# Altium integrated library Actel ProASIC PLUS.IntLib: 242 symbols (part 23 of 36)
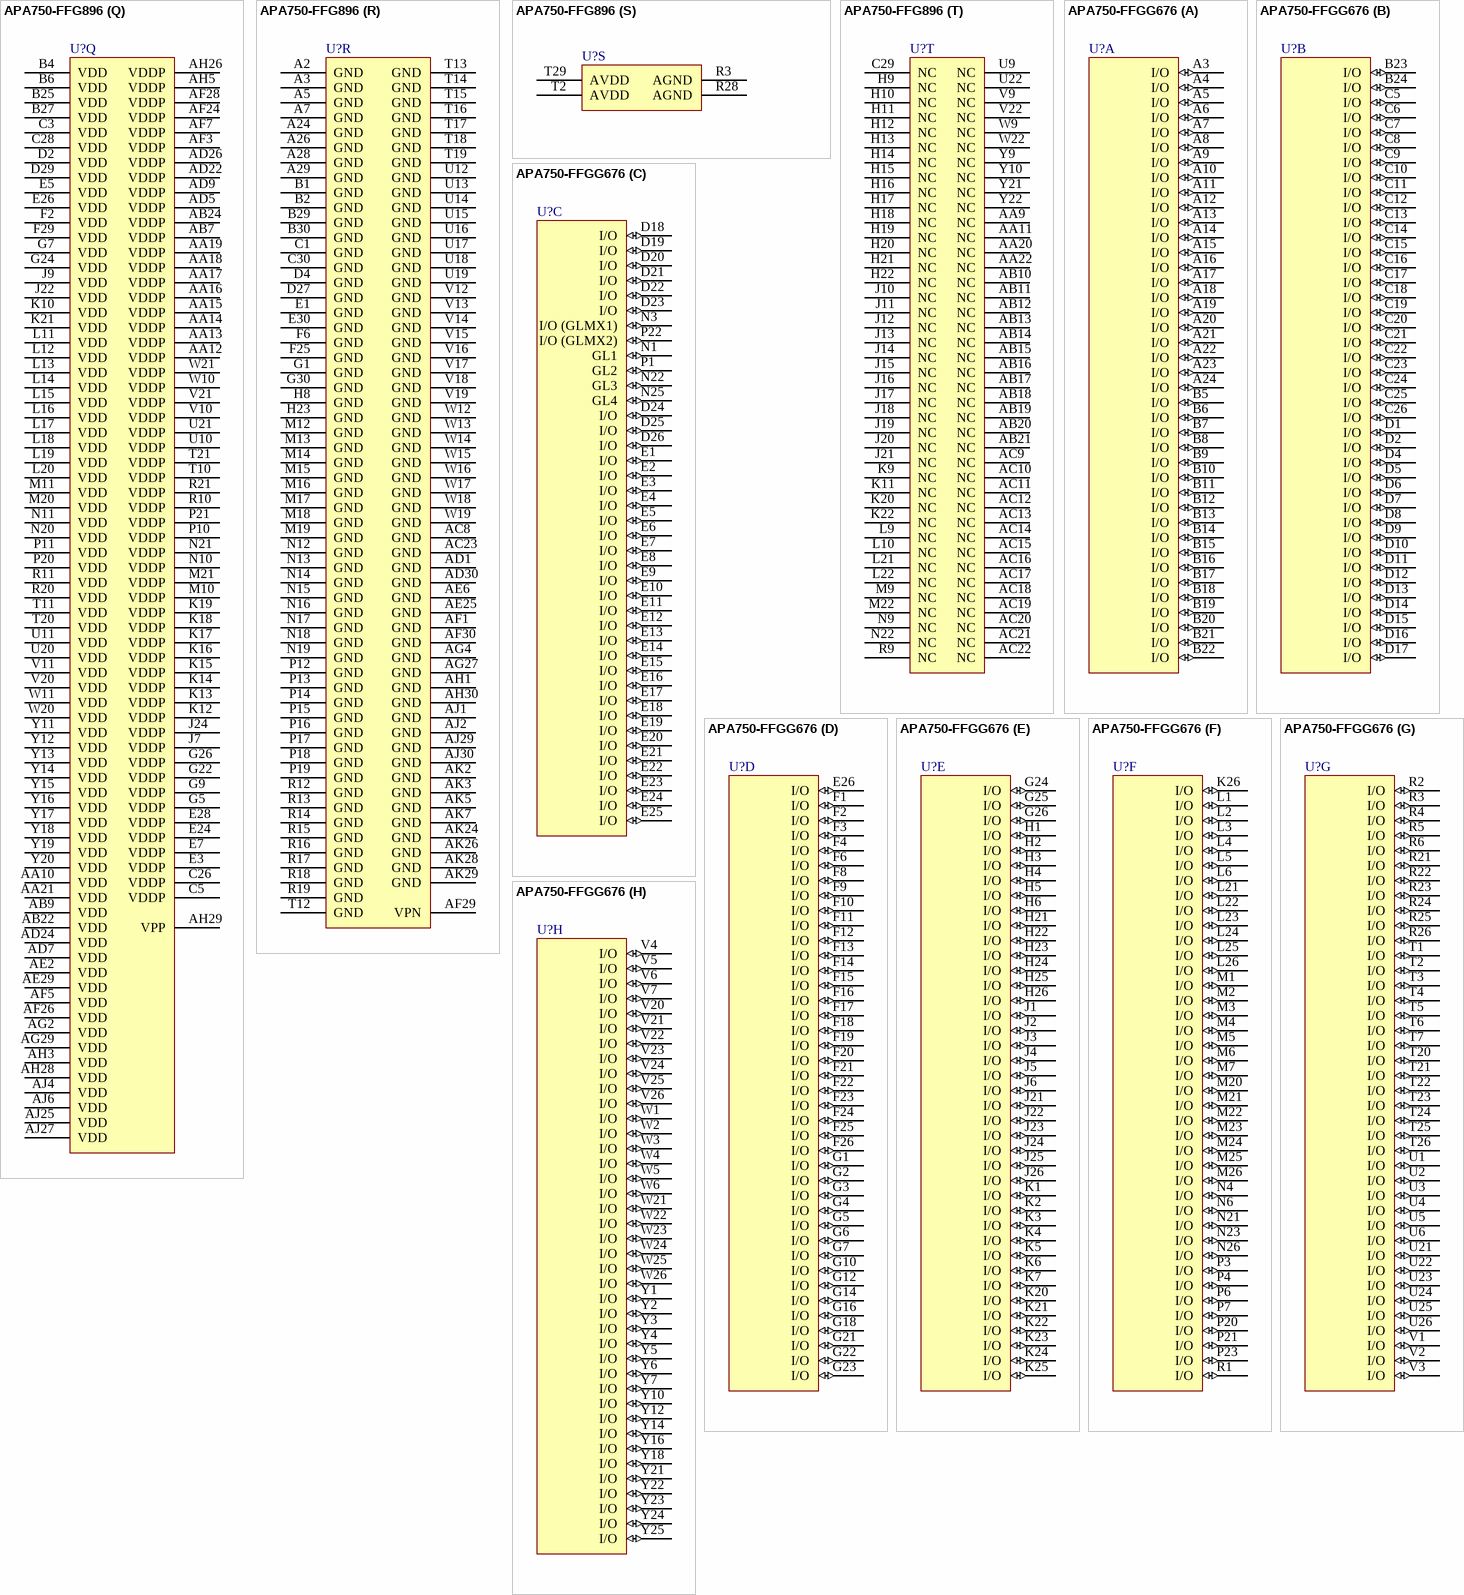
[diagram p219: symbols APA750-FFG896 to APA750-FFGG676]

## APA750-FFG896
designator U?
ProASICPlus APA750 Flash FPGA, 562 User IOs, 896-Pin FBGA, Speed Grade F, Commercial Grade; ComponentAvailability: Speed Grade F no longer suported, removed from v5.9, Jan-2010 datasheet.; Published: 21-May-2003; LatestRevisionDate: 11-Dec-2009; LatestRevisionNote: Updated to datasheet version 5.8 Jun-2009.; DatasheetVersion: v5.8, Jun-2009; PackageVersion: ver11.2, Nov-2009; PackageReference: FG896; Publisher: Altium Limited; PackageDescription: 896-Ball Fine Pitch Plastic Ball Grid Array (FG896); Code_JEDEC: MS-034-AAN-1; ComponentLink1Description: ProASIC PLUS Datasheet; ComponentLink1URL: http://www.actel.com/documents/ProASICPLUS_DS.pdf; ComponentLink2Description: Package Mechanical Drawings; ComponentLink2URL: http://www.actel.com/documents/PckgMechDrwngs.pdf; ComponentLink3Description: ProASIC PLUS Documents; ComponentLink3URL: http://www.actel.com/products/proasicplus/docs.aspx; ComponentLink4Description: Actel.com Home; ComponentLink4URL: http://www.actel.com/
footprint FG896 (BGA, 896-Leads, Body 31x31mm, Pitch 1mm)
part A pins: A4 I/O (io), A6 I/O (io), A8 I/O (io), A9 I/O (io), A10 I/O (io), A11 I/O (io), A12 I/O (io), A13 I/O (io), A14 I/O (io), A15 I/O (io), A16 I/O (io), A17 I/O (io), A18 I/O (io), A19 I/O (io), A20 I/O (io), A21 I/O (io), A22 I/O (io), A23 I/O (io), A25 I/O (io), A27 I/O (io), B3 I/O (io), B5 I/O (io), B7 I/O (io), B8 I/O (io), B9 I/O (io), B10 I/O (io), B11 I/O (io), B12 I/O (io), B13 I/O (io), B14 I/O (io), B15 I/O (io), B16 I/O (io), B17 I/O (io), B18 I/O (io), B19 I/O (io), B20 I/O (io), B21 I/O (io), B22 I/O (io), B23 I/O (io), B24 I/O (io)
part B pins: B26 I/O (io), B28 I/O (io), C2 I/O (io), C4 I/O (io), C6 I/O (io), C7 I/O (io), C8 I/O (io), C9 I/O (io), C10 I/O (io), C11 I/O (io), C12 I/O (io), C13 I/O (io), C14 I/O (io), C15 I/O (io), C16 I/O (io), C17 I/O (io), C18 I/O (io), C19 I/O (io), C20 I/O (io), C21 I/O (io), C22 I/O (io), C23 I/O (io), C24 I/O (io), C25 I/O (io), C27 I/O (io), D1 I/O (io), D3 I/O (io), D5 I/O (io), D6 I/O (io), D7 I/O (io), D8 I/O (io), D9 I/O (io), D10 I/O (io), D11 I/O (io), D12 I/O (io), D13 I/O (io), D14 I/O (io), D15 I/O (io), D16 I/O (io), D17 I/O (io)
part C pins: D18 I/O (io), D19 I/O (io), D20 I/O (io), D21 I/O (io), D22 I/O (io), D23 I/O (io), D24 I/O (io), D25 I/O (io), D26 I/O (io), D28 I/O (io), D30 I/O (io), E2 I/O (io), E4 I/O (io), E6 I/O (io), E8 I/O (io), E9 I/O (io), E10 I/O (io), E11 I/O (io), E12 I/O (io), E13 I/O (io), E14 I/O (io), E15 I/O (io), E16 I/O (io), E17 I/O (io), E18 I/O (io), E19 I/O (io), E20 I/O (io), E21 I/O (io), E22 I/O (io), E23 I/O (io), E25 I/O (io), E27 I/O (io), E29 I/O (io), F1 I/O (io), F3 I/O (io), F4 I/O (io), F5 I/O (io), F7 I/O (io), F8 I/O (io), F9 I/O (io)
part D pins: F10 I/O (io), F11 I/O (io), F12 I/O (io), F13 I/O (io), F14 I/O (io), F15 I/O (io), F16 I/O (io), F17 I/O (io), F18 I/O (io), F19 I/O (io), F20 I/O (io), F21 I/O (io), F22 I/O (io), F23 I/O (io), F24 I/O (io), F26 I/O (io), F27 I/O (io), F28 I/O (io), F30 I/O (io), G2 I/O (io), G3 I/O (io), G4 I/O (io), G6 I/O (io), G8 I/O (io), G10 I/O (io), G11 I/O (io), G12 I/O (io), G13 I/O (io), G14 I/O (io), G15 I/O (io), G16 I/O (io), G17 I/O (io), G18 I/O (io), G19 I/O (io), R2 I/O (GLMX1) (io), R5 GL1 (io), R29 I/O (GLMX2) (io), T3 GL2 (io), T27 GL4 (io), T28 GL3 (io)
part E pins: G20 I/O (io), G21 I/O (io), G23 I/O (io), G25 I/O (io), G27 I/O (io), G28 I/O (io), G29 I/O (io), H1 I/O (io), H2 I/O (io), H3 I/O (io), H4 I/O (io), H5 I/O (io), H6 I/O (io), H7 I/O (io), H24 I/O (io), H25 I/O (io), H26 I/O (io), H27 I/O (io), H28 I/O (io), H29 I/O (io), H30 I/O (io), J1 I/O (io), J2 I/O (io), J3 I/O (io), J4 I/O (io), J5 I/O (io), J6 I/O (io), J8 I/O (io), J23 I/O (io), J25 I/O (io), J26 I/O (io), J27 I/O (io), J28 I/O (io), J29 I/O (io), J30 I/O (io), K1 I/O (io), K2 I/O (io), K3 I/O (io), K4 I/O (io), K5 I/O (io)
part F pins: K6 I/O (io), K7 I/O (io), K8 I/O (io), K23 I/O (io), K24 I/O (io), K25 I/O (io), K26 I/O (io), K27 I/O (io), K28 I/O (io), K29 I/O (io), K30 I/O (io), L1 I/O (io), L2 I/O (io), L3 I/O (io), L4 I/O (io), L5 I/O (io), L6 I/O (io), L7 I/O (io), L8 I/O (io), L23 I/O (io), L24 I/O (io), L25 I/O (io), L26 I/O (io), L27 I/O (io), L28 I/O (io), L29 I/O (io), L30 I/O (io), M1 I/O (io), M2 I/O (io), M3 I/O (io), M4 I/O (io), M5 I/O (io), M6 I/O (io), M7 I/O (io), M8 I/O (io), M23 I/O (io), M24 I/O (io), M25 I/O (io), M26 I/O (io), M27 I/O (io)
part G pins: M28 I/O (io), M29 I/O (io), M30 I/O (io), N1 I/O (io), N2 I/O (io), N3 I/O (io), N4 I/O (io), N5 I/O (io), N6 I/O (io), N7 I/O (io), N8 I/O (io), N23 I/O (io), N24 I/O (io), N25 I/O (io), N26 I/O (io), N27 I/O (io), N28 I/O (io), N29 I/O (io), N30 I/O (io), P1 I/O (io), P2 I/O (io), P3 I/O (io), P4 I/O (io), P5 I/O (io), P6 I/O (io), P7 I/O (io), P8 I/O (io), P9 I/O (io), P22 I/O (io), P23 I/O (io), P24 I/O (io), P25 I/O (io), P26 I/O (io), P27 I/O (io), P28 I/O (io), P29 I/O (io), P30 I/O (io), R1 I/O (io), R6 I/O (io), R7 I/O (io)
part H pins: R8 I/O (io), R22 I/O (io), R23 I/O (io), R24 I/O (io), R25 I/O (io), R26 I/O (io), R30 I/O (io), T1 I/O (io), T5 I/O (io), T6 I/O (io), T7 I/O (io), T8 I/O (io), T9 I/O (io), T22 I/O (io), T23 I/O (io), T24 I/O (io), T25 I/O (io), T30 I/O (io), U1 I/O (io), U2 I/O (io), U3 I/O (io), U4 I/O (io), U5 I/O (io), U6 I/O (io), U7 I/O (io), U8 I/O (io), U23 I/O (io), U24 I/O (io), U25 I/O (io), U26 I/O (io), U27 I/O (io), U28 I/O (io), U29 I/O (io), U30 I/O (io), V1 I/O (io), V2 I/O (io), V3 I/O (io), V4 I/O (io), V5 I/O (io), V6 I/O (io)
part I pins: V7 I/O (io), V8 I/O (io), V23 I/O (io), V24 I/O (io), V25 I/O (io), V26 I/O (io), V27 I/O (io), V28 I/O (io), V29 I/O (io), V30 I/O (io), W1 I/O (io), W2 I/O (io), W3 I/O (io), W4 I/O (io), W5 I/O (io), W6 I/O (io), W7 I/O (io), W8 I/O (io), W23 I/O (io), W24 I/O (io), W25 I/O (io), W26 I/O (io), W27 I/O (io), W28 I/O (io), W29 I/O (io), W30 I/O (io), Y1 I/O (io), Y2 I/O (io), Y3 I/O (io), Y4 I/O (io), Y5 I/O (io), Y6 I/O (io), Y7 I/O (io), Y8 I/O (io), Y23 I/O (io), Y24 I/O (io), Y25 I/O (io), Y26 I/O (io), Y27 I/O (io), Y28 I/O (io)
part J pins: AA1 I/O (io), AA2 I/O (io), AA3 I/O (io), AA4 I/O (io), AA5 I/O (io), AA6 I/O (io), AA7 I/O (io), AA8 I/O (io), AA23 I/O (io), AA24 I/O (io), AA25 I/O (io), AA26 I/O (io), AA27 I/O (io), AA28 I/O (io), AA29 I/O (io), AA30 I/O (io), AB1 I/O (io), AB2 I/O (io), AB3 I/O (io), AB4 I/O (io), AB5 I/O (io), AB6 I/O (io), AB8 I/O (io), AB23 I/O (io), AB25 I/O (io), AB26 I/O (io), AB27 I/O (io), AB28 I/O (io), AB29 I/O (io), AB30 I/O (io), AC1 I/O (io), AC2 I/O (io), AC3 I/O (io), AC4 I/O (io), AC5 I/O (io), AC6 I/O (io), AC7 I/O (io), AC24 I/O (io), Y29 I/O (io), Y30 I/O (io)
part K pins: AC25 I/O (io), AC26 I/O (io), AC27 I/O (io), AC28 I/O (io), AC29 I/O (io), AC30 I/O (io), AD2 I/O (io), AD3 I/O (io), AD4 I/O (io), AD6 I/O (io), AD8 I/O (io), AD10 I/O (io), AD11 I/O (io), AD12 I/O (io), AD13 I/O (io), AD14 I/O (io), AD15 I/O (io), AD16 I/O (io), AD17 I/O (io), AD18 I/O (io), AD19 I/O (io), AD20 I/O (io), AD21 I/O (io), AD27 I/O (io), AD28 I/O (io), AD29 I/O (io), AE1 I/O (io), AE3 I/O (io), AE4 I/O (io), AE5 I/O (io), AE7 I/O (io), AE8 I/O (io), AE9 I/O (io), AE10 I/O (io), AE11 I/O (io), AE12 I/O (io), AE13 I/O (io), AE14 I/O (io), AE15 I/O (io), AE16 I/O (io)
part L pins: AE17 I/O (io), AE18 I/O (io), AE19 I/O (io), AE20 I/O (io), AE21 I/O (io), AE22 I/O (io), AE23 I/O (io), AE24 I/O (io), AE26 I/O (io), AE27 I/O (io), AE28 I/O (io), AE30 I/O (io), AF2 I/O (io), AF4 I/O (io), AF6 I/O (io), AF8 I/O (io), AF9 I/O (io), AF10 I/O (io), AF11 I/O (io), AF12 I/O (io), AF13 I/O (io), AF14 I/O (io), AF15 I/O (io), AF16 I/O (io), AF17 I/O (io), AF18 I/O (io), AF19 I/O (io), AF20 I/O (io), AF21 I/O (io), AF22 I/O (io), AF23 I/O (io), AF25 I/O (io), AG1 I/O (io), AG3 I/O (io), AG5 I/O (io), AG6 I/O (io), AG7 I/O (io), AG8 I/O (io), AG9 I/O (io), AG10 I/O (io)
part M pins: AG11 I/O (io), AG12 I/O (io), AG13 I/O (io), AG14 I/O (io), AG15 I/O (io), AG16 I/O (io), AG17 I/O (io), AG18 I/O (io), AG19 I/O (io), AG20 I/O (io), AG21 I/O (io), AG22 I/O (io), AG23 I/O (io), AG24 I/O (io), AG25 I/O (io), AG26 I/O (io), AG30 I/O (io), AH2 I/O (io), AH4 I/O (io), AH6 I/O (io), AH7 I/O (io), AH8 I/O (io), AH9 I/O (io), AH10 I/O (io), AH11 I/O (io), AH12 I/O (io), AH13 I/O (io), AH14 I/O (io), AH15 I/O (io), AH16 I/O (io), AH17 I/O (io), AH18 I/O (io), AH19 I/O (io), AH20 I/O (io), AH21 I/O (io), AH22 I/O (io), AH23 I/O (io), AH24 I/O (io), AH25 I/O (io), AJ3 I/O (io)
part N pins: AJ5 I/O (io), AJ7 I/O (io), AJ8 I/O (io), AJ9 I/O (io), AJ10 I/O (io), AJ11 I/O (io), AJ12 I/O (io), AJ13 I/O (io), AJ14 I/O (io), AJ15 I/O (io), AJ16 I/O (io), AJ17 I/O (io), AJ18 I/O (io), AJ19 I/O (io), AJ20 I/O (io), AJ21 I/O (io), AJ22 I/O (io), AJ23 I/O (io), AJ24 I/O (io), AJ26 I/O (io), AK4 I/O (io), AK6 I/O (io), AK8 I/O (io), AK9 I/O (io), AK10 I/O (io), AK11 I/O (io), AK12 I/O (io), AK13 I/O (io), AK14 I/O (io), AK15 I/O (io), AK16 I/O (io), AK17 I/O (io), AK18 I/O (io), AK19 I/O (io), AK20 I/O (io), AK21 I/O (io), AK22 I/O (io), AK23 I/O (io), AK25 I/O (io), AK27 I/O (io)
part O pins: R4 NPECL1 (in), R27 NPECL2 (in), T4 PPECL1 (I/P) (in), T26 PPECL2 (I/P) (in)
part P pins: AD23 TCK (in), AD25 ~{TRST} (in), AF27 TDO (out), AG28 RCK (in), AH27 TDI (in), AJ28 TMS (in)
part Q pins: AA10 VDD (power), AA12 VDDP (power), AA13 VDDP (power), AA14 VDDP (power), AA15 VDDP (power), AA16 VDDP (power), AA17 VDDP (power), AA18 VDDP (power), AA19 VDDP (power), AA21 VDD (power), AB7 VDDP (power), AB9 VDD (power), AB22 VDD (power), AB24 VDDP (power), AD5 VDDP (power), AD7 VDD (power), AD9 VDDP (power), AD22 VDDP (power), AD24 VDD (power), AD26 VDDP (power), AE2 VDD (power), AE29 VDD (power), AF3 VDDP (power), AF5 VDD (power), AF7 VDDP (power), AF24 VDDP (power), AF26 VDD (power), AF28 VDDP (power), AG2 VDD (power), AG29 VDD (power), AH3 VDD (power), AH5 VDDP (power), AH26 VDDP (power), AH28 VDD (power), AH29 VPP (power), AJ4 VDD (power), AJ6 VDD (power), AJ25 VDD (power), AJ27 VDD (power), B4 VDD (power), B6 VDD (power), B25 VDD (power), B27 VDD (power), C3 VDD (power), C5 VDDP (power), C26 VDDP (power), C28 VDD (power), D2 VDD (power), D29 VDD (power), E3 VDDP (power), E5 VDD (power), E7 VDDP (power), E24 VDDP (power), E26 VDD (power), E28 VDDP (power), F2 VDD (power), F29 VDD (power), G5 VDDP (power), G7 VDD (power), G9 VDDP (power), G22 VDDP (power), G24 VDD (power), G26 VDDP (power), J7 VDDP (power), J9 VDD (power), J22 VDD (power), J24 VDDP (power), K10 VDD (power), K12 VDDP (power), K13 VDDP (power), K14 VDDP (power), K15 VDDP (power), K16 VDDP (power), K17 VDDP (power), K18 VDDP (power), K19 VDDP (power), K21 VDD (power), L11 VDD (power), L12 VDD (power), L13 VDD (power), L14 VDD (power), L15 VDD (power), L16 VDD (power), L17 VDD (power), L18 VDD (power), L19 VDD (power), L20 VDD (power), M10 VDDP (power), M11 VDD (power), M20 VDD (power), M21 VDDP (power), N10 VDDP (power), N11 VDD (power), N20 VDD (power), N21 VDDP (power), P10 VDDP (power), P11 VDD (power), P20 VDD (power), P21 VDDP (power), R10 VDDP (power), R11 VDD (power), R20 VDD (power), R21 VDDP (power), T10 VDDP (power), T11 VDD (power), T20 VDD (power), T21 VDDP (power), U10 VDDP (power), U11 VDD (power), U20 VDD (power), U21 VDDP (power), V10 VDDP (power), V11 VDD (power), V20 VDD (power), V21 VDDP (power), W10 VDDP (power), W11 VDD (power), W20 VDD (power), W21 VDDP (power), Y11 VDD (power), Y12 VDD (power), Y13 VDD (power), Y14 VDD (power), Y15 VDD (power), Y16 VDD (power), Y17 VDD (power), Y18 VDD (power), Y19 VDD (power), Y20 VDD (power)
part R pins: A2 GND (power), A3 GND (power), A5 GND (power), A7 GND (power), A24 GND (power), A26 GND (power), A28 GND (power), A29 GND (power), AC8 GND (power), AC23 GND (power), AD1 GND (power), AD30 GND (power), AE6 GND (power), AE25 GND (power), AF1 GND (power), AF29 VPN (power), AF30 GND (power), AG4 GND (power), AG27 GND (power), AH1 GND (power), AH30 GND (power), AJ1 GND (power), AJ2 GND (power), AJ29 GND (power), AJ30 GND (power), AK2 GND (power), AK3 GND (power), AK5 GND (power), AK7 GND (power), AK24 GND (power), AK26 GND (power), AK28 GND (power), AK29 GND (power), B1 GND (power), B2 GND (power), B29 GND (power), B30 GND (power), C1 GND (power), C30 GND (power), D4 GND (power), D27 GND (power), E1 GND (power), E30 GND (power), F6 GND (power), F25 GND (power), G1 GND (power), G30 GND (power), H8 GND (power), H23 GND (power), M12 GND (power), M13 GND (power), M14 GND (power), M15 GND (power), M16 GND (power), M17 GND (power), M18 GND (power), M19 GND (power), N12 GND (power), N13 GND (power), N14 GND (power), N15 GND (power), N16 GND (power), N17 GND (power), N18 GND (power), N19 GND (power), P12 GND (power), P13 GND (power), P14 GND (power), P15 GND (power), P16 GND (power), P17 GND (power), P18 GND (power), P19 GND (power), R12 GND (power), R13 GND (power), R14 GND (power), R15 GND (power), R16 GND (power), R17 GND (power), R18 GND (power), R19 GND (power), T12 GND (power), T13 GND (power), T14 GND (power), T15 GND (power), T16 GND (power), T17 GND (power), T18 GND (power), T19 GND (power), U12 GND (power), U13 GND (power), U14 GND (power), U15 GND (power), U16 GND (power), U17 GND (power), U18 GND (power), U19 GND (power), V12 GND (power), V13 GND (power), V14 GND (power), V15 GND (power), V16 GND (power), V17 GND (power), V18 GND (power), V19 GND (power), W12 GND (power), W13 GND (power), W14 GND (power), W15 GND (power), W16 GND (power), W17 GND (power), W18 GND (power), W19 GND (power)
part S pins: R3 AGND (power), R28 AGND (power), T2 AVDD (power), T29 AVDD (power)
part T pins: AA9 NC, AA11 NC, AA20 NC, AA22 NC, AB10 NC, AB11 NC, AB12 NC, AB13 NC, AB14 NC, AB15 NC, AB16 NC, AB17 NC, AB18 NC, AB19 NC, AB20 NC, AB21 NC, AC9 NC, AC10 NC, AC11 NC, AC12 NC, AC13 NC, AC14 NC, AC15 NC, AC16 NC, AC17 NC, AC18 NC, AC19 NC, AC20 NC, AC21 NC, AC22 NC, C29 NC, H9 NC, H10 NC, H11 NC, H12 NC, H13 NC, H14 NC, H15 NC, H16 NC, H17 NC, H18 NC, H19 NC, H20 NC, H21 NC, H22 NC, J10 NC, J11 NC, J12 NC, J13 NC, J14 NC, J15 NC, J16 NC, J17 NC, J18 NC, J19 NC, J20 NC, J21 NC, K9 NC, K11 NC, K20 NC, K22 NC, L9 NC, L10 NC, L21 NC, L22 NC, M9 NC, M22 NC, N9 NC, N22 NC, R9 NC, U9 NC, U22 NC, V9 NC, V22 NC, W9 NC, W22 NC, Y9 NC, Y10 NC, Y21 NC, Y22 NC

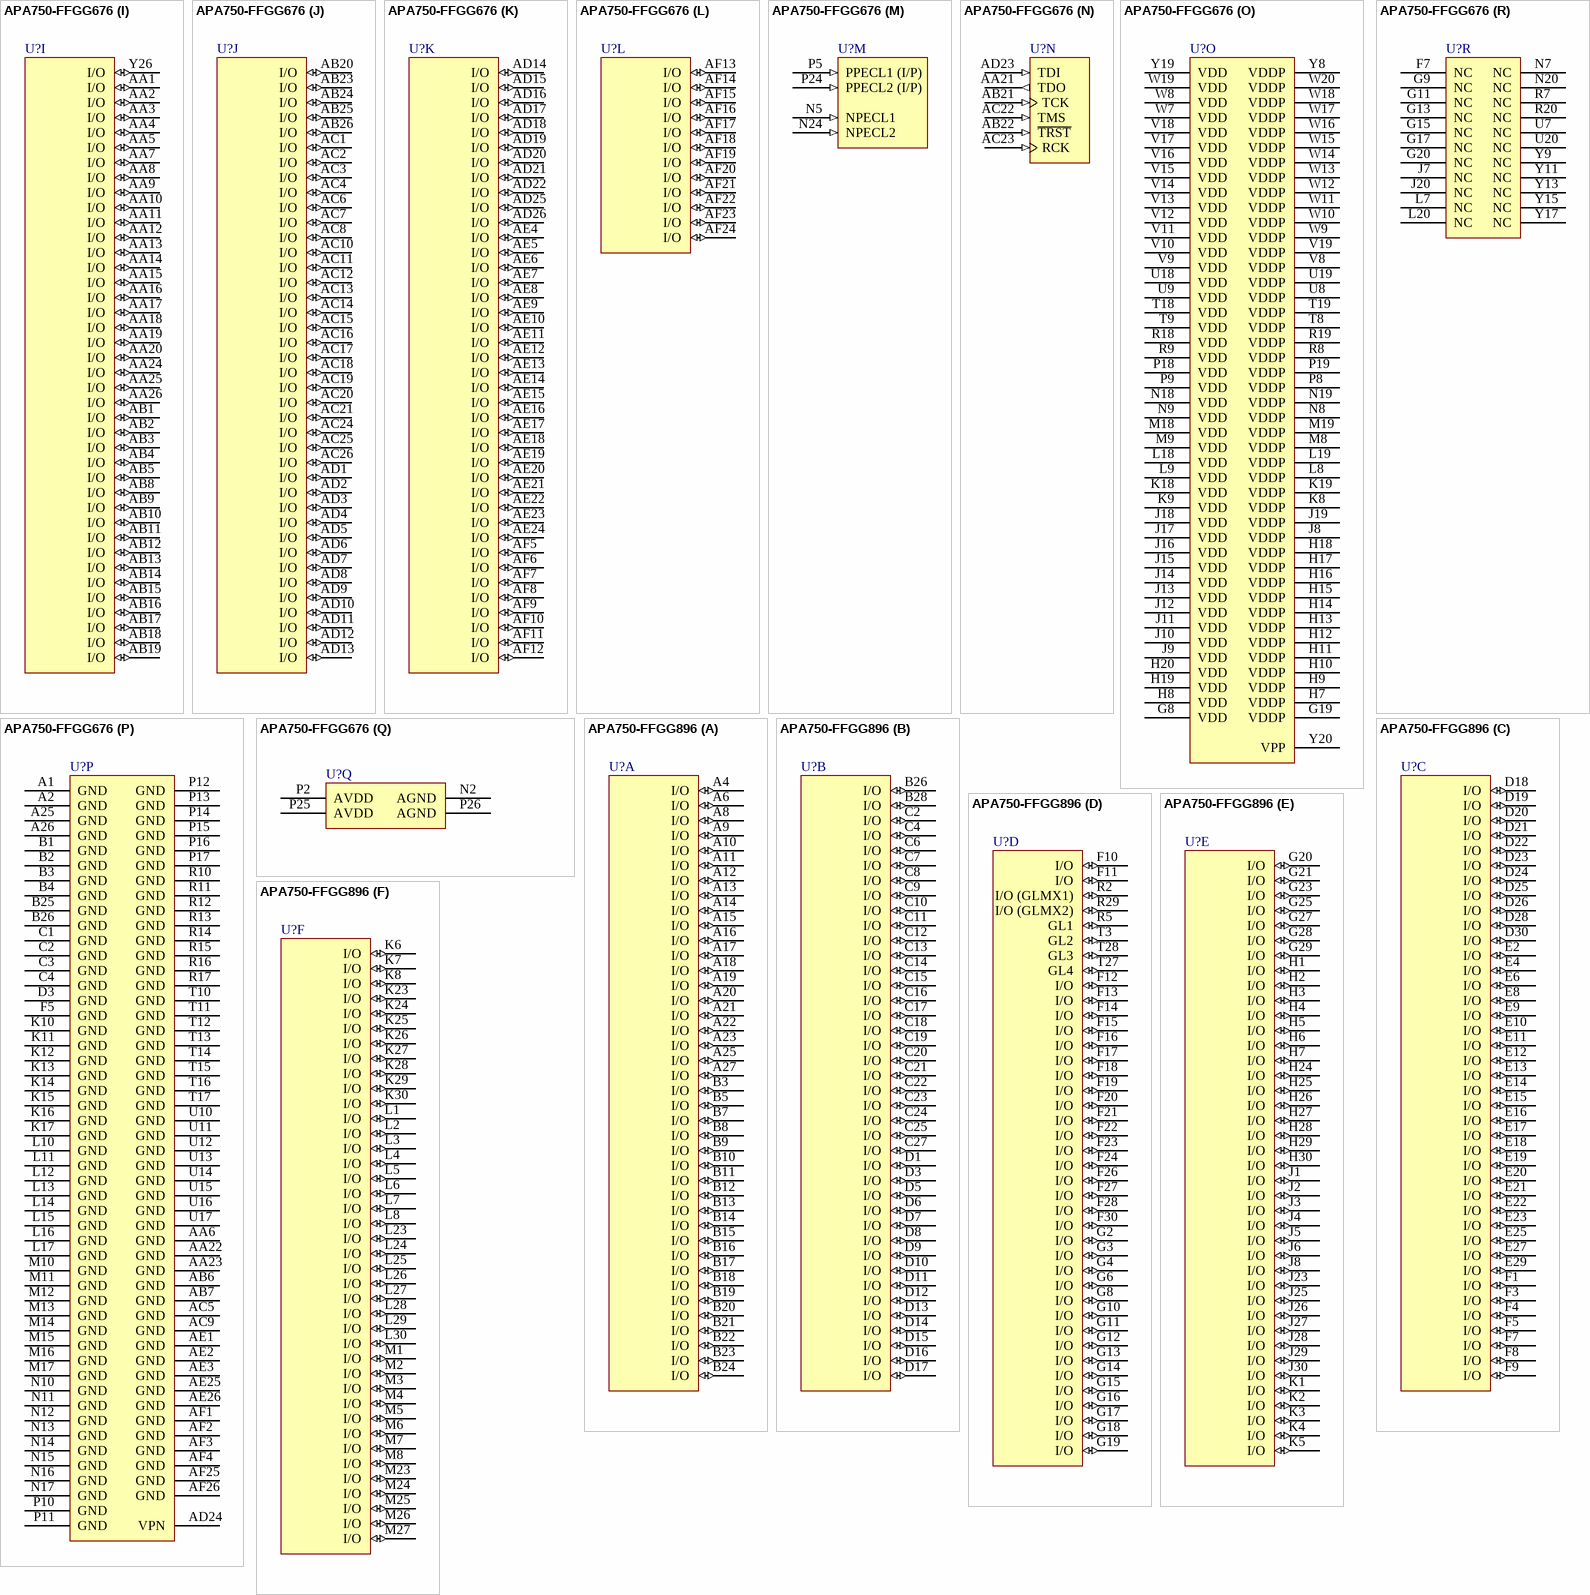
[diagram p131: symbols APA750-FFGG676 to APA750-FFGG896]

## APA750-FFGG676
designator U?
ProASICPlus APA750 Flash FPGA, 454 User IOs, 676-Pin FBGA, Speed Grade F, Commercial Grade, Pb-Free; ComponentAvailability: Speed Grade F no longer suported, removed from v5.9, Jan-2010 datasheet.; Published: 16-Dec-2005; LatestRevisionDate: 11-Dec-2009; LatestRevisionNote: Updated to datasheet version 5.8 Jun-2009.; DatasheetVersion: v5.8, Jun-2009; PackageVersion: ver11.2, Nov-2009; PackageReference: FG676; Publisher: Altium Limited; PackageDescription: 676-Ball Fine Pitch Plastic Ball Grid Array (FG676); Code_JEDEC: MS-034-AAL-1; Code_IPC: BGA100P26X26-676; ComponentLink1Description: ProASIC PLUS Datasheet; ComponentLink1URL: http://www.actel.com/documents/ProASICPLUS_DS.pdf; ComponentLink2Description: Package Mechanical Drawings; ComponentLink2URL: http://www.actel.com/documents/PckgMechDrwngs.pdf; ComponentLink3Description: ProASIC PLUS Documents; ComponentLink3URL: http://www.actel.com/products/proasicplus/docs.aspx; ComponentLink4Description: Actel.com Home; ComponentLink4URL: http://www.actel.com/
footprint FG676 (BGA, 676-Leads, Body 27x27mm, Pitch 1mm)
part A pins: A3 I/O (io), A4 I/O (io), A5 I/O (io), A6 I/O (io), A7 I/O (io), A8 I/O (io), A9 I/O (io), A10 I/O (io), A11 I/O (io), A12 I/O (io), A13 I/O (io), A14 I/O (io), A15 I/O (io), A16 I/O (io), A17 I/O (io), A18 I/O (io), A19 I/O (io), A20 I/O (io), A21 I/O (io), A22 I/O (io), A23 I/O (io), A24 I/O (io), B5 I/O (io), B6 I/O (io), B7 I/O (io), B8 I/O (io), B9 I/O (io), B10 I/O (io), B11 I/O (io), B12 I/O (io), B13 I/O (io), B14 I/O (io), B15 I/O (io), B16 I/O (io), B17 I/O (io), B18 I/O (io), B19 I/O (io), B20 I/O (io), B21 I/O (io), B22 I/O (io)
part B pins: B23 I/O (io), B24 I/O (io), C5 I/O (io), C6 I/O (io), C7 I/O (io), C8 I/O (io), C9 I/O (io), C10 I/O (io), C11 I/O (io), C12 I/O (io), C13 I/O (io), C14 I/O (io), C15 I/O (io), C16 I/O (io), C17 I/O (io), C18 I/O (io), C19 I/O (io), C20 I/O (io), C21 I/O (io), C22 I/O (io), C23 I/O (io), C24 I/O (io), C25 I/O (io), C26 I/O (io), D1 I/O (io), D2 I/O (io), D4 I/O (io), D5 I/O (io), D6 I/O (io), D7 I/O (io), D8 I/O (io), D9 I/O (io), D10 I/O (io), D11 I/O (io), D12 I/O (io), D13 I/O (io), D14 I/O (io), D15 I/O (io), D16 I/O (io), D17 I/O (io)
part C pins: D18 I/O (io), D19 I/O (io), D20 I/O (io), D21 I/O (io), D22 I/O (io), D23 I/O (io), D24 I/O (io), D25 I/O (io), D26 I/O (io), E1 I/O (io), E2 I/O (io), E3 I/O (io), E4 I/O (io), E5 I/O (io), E6 I/O (io), E7 I/O (io), E8 I/O (io), E9 I/O (io), E10 I/O (io), E11 I/O (io), E12 I/O (io), E13 I/O (io), E14 I/O (io), E15 I/O (io), E16 I/O (io), E17 I/O (io), E18 I/O (io), E19 I/O (io), E20 I/O (io), E21 I/O (io), E22 I/O (io), E23 I/O (io), E24 I/O (io), E25 I/O (io), N1 GL1 (io), N3 I/O (GLMX1) (io), N22 GL3 (io), N25 GL4 (io), P1 GL2 (io), P22 I/O (GLMX2) (io)
part D pins: E26 I/O (io), F1 I/O (io), F2 I/O (io), F3 I/O (io), F4 I/O (io), F6 I/O (io), F8 I/O (io), F9 I/O (io), F10 I/O (io), F11 I/O (io), F12 I/O (io), F13 I/O (io), F14 I/O (io), F15 I/O (io), F16 I/O (io), F17 I/O (io), F18 I/O (io), F19 I/O (io), F20 I/O (io), F21 I/O (io), F22 I/O (io), F23 I/O (io), F24 I/O (io), F25 I/O (io), F26 I/O (io), G1 I/O (io), G2 I/O (io), G3 I/O (io), G4 I/O (io), G5 I/O (io), G6 I/O (io), G7 I/O (io), G10 I/O (io), G12 I/O (io), G14 I/O (io), G16 I/O (io), G18 I/O (io), G21 I/O (io), G22 I/O (io), G23 I/O (io)
part E pins: G24 I/O (io), G25 I/O (io), G26 I/O (io), H1 I/O (io), H2 I/O (io), H3 I/O (io), H4 I/O (io), H5 I/O (io), H6 I/O (io), H21 I/O (io), H22 I/O (io), H23 I/O (io), H24 I/O (io), H25 I/O (io), H26 I/O (io), J1 I/O (io), J2 I/O (io), J3 I/O (io), J4 I/O (io), J5 I/O (io), J6 I/O (io), J21 I/O (io), J22 I/O (io), J23 I/O (io), J24 I/O (io), J25 I/O (io), J26 I/O (io), K1 I/O (io), K2 I/O (io), K3 I/O (io), K4 I/O (io), K5 I/O (io), K6 I/O (io), K7 I/O (io), K20 I/O (io), K21 I/O (io), K22 I/O (io), K23 I/O (io), K24 I/O (io), K25 I/O (io)
part F pins: K26 I/O (io), L1 I/O (io), L2 I/O (io), L3 I/O (io), L4 I/O (io), L5 I/O (io), L6 I/O (io), L21 I/O (io), L22 I/O (io), L23 I/O (io), L24 I/O (io), L25 I/O (io), L26 I/O (io), M1 I/O (io), M2 I/O (io), M3 I/O (io), M4 I/O (io), M5 I/O (io), M6 I/O (io), M7 I/O (io), M20 I/O (io), M21 I/O (io), M22 I/O (io), M23 I/O (io), M24 I/O (io), M25 I/O (io), M26 I/O (io), N4 I/O (io), N6 I/O (io), N21 I/O (io), N23 I/O (io), N26 I/O (io), P3 I/O (io), P4 I/O (io), P6 I/O (io), P7 I/O (io), P20 I/O (io), P21 I/O (io), P23 I/O (io), R1 I/O (io)
part G pins: R2 I/O (io), R3 I/O (io), R4 I/O (io), R5 I/O (io), R6 I/O (io), R21 I/O (io), R22 I/O (io), R23 I/O (io), R24 I/O (io), R25 I/O (io), R26 I/O (io), T1 I/O (io), T2 I/O (io), T3 I/O (io), T4 I/O (io), T5 I/O (io), T6 I/O (io), T7 I/O (io), T20 I/O (io), T21 I/O (io), T22 I/O (io), T23 I/O (io), T24 I/O (io), T25 I/O (io), T26 I/O (io), U1 I/O (io), U2 I/O (io), U3 I/O (io), U4 I/O (io), U5 I/O (io), U6 I/O (io), U21 I/O (io), U22 I/O (io), U23 I/O (io), U24 I/O (io), U25 I/O (io), U26 I/O (io), V1 I/O (io), V2 I/O (io), V3 I/O (io)
part H pins: V4 I/O (io), V5 I/O (io), V6 I/O (io), V7 I/O (io), V20 I/O (io), V21 I/O (io), V22 I/O (io), V23 I/O (io), V24 I/O (io), V25 I/O (io), V26 I/O (io), W1 I/O (io), W2 I/O (io), W3 I/O (io), W4 I/O (io), W5 I/O (io), W6 I/O (io), W21 I/O (io), W22 I/O (io), W23 I/O (io), W24 I/O (io), W25 I/O (io), W26 I/O (io), Y1 I/O (io), Y2 I/O (io), Y3 I/O (io), Y4 I/O (io), Y5 I/O (io), Y6 I/O (io), Y7 I/O (io), Y10 I/O (io), Y12 I/O (io), Y14 I/O (io), Y16 I/O (io), Y18 I/O (io), Y21 I/O (io), Y22 I/O (io), Y23 I/O (io), Y24 I/O (io), Y25 I/O (io)
part I pins: AA1 I/O (io), AA2 I/O (io), AA3 I/O (io), AA4 I/O (io), AA5 I/O (io), AA7 I/O (io), AA8 I/O (io), AA9 I/O (io), AA10 I/O (io), AA11 I/O (io), AA12 I/O (io), AA13 I/O (io), AA14 I/O (io), AA15 I/O (io), AA16 I/O (io), AA17 I/O (io), AA18 I/O (io), AA19 I/O (io), AA20 I/O (io), AA24 I/O (io), AA25 I/O (io), AA26 I/O (io), AB1 I/O (io), AB2 I/O (io), AB3 I/O (io), AB4 I/O (io), AB5 I/O (io), AB8 I/O (io), AB9 I/O (io), AB10 I/O (io), AB11 I/O (io), AB12 I/O (io), AB13 I/O (io), AB14 I/O (io), AB15 I/O (io), AB16 I/O (io), AB17 I/O (io), AB18 I/O (io), AB19 I/O (io), Y26 I/O (io)
part J pins: AB20 I/O (io), AB23 I/O (io), AB24 I/O (io), AB25 I/O (io), AB26 I/O (io), AC1 I/O (io), AC2 I/O (io), AC3 I/O (io), AC4 I/O (io), AC6 I/O (io), AC7 I/O (io), AC8 I/O (io), AC10 I/O (io), AC11 I/O (io), AC12 I/O (io), AC13 I/O (io), AC14 I/O (io), AC15 I/O (io), AC16 I/O (io), AC17 I/O (io), AC18 I/O (io), AC19 I/O (io), AC20 I/O (io), AC21 I/O (io), AC24 I/O (io), AC25 I/O (io), AC26 I/O (io), AD1 I/O (io), AD2 I/O (io), AD3 I/O (io), AD4 I/O (io), AD5 I/O (io), AD6 I/O (io), AD7 I/O (io), AD8 I/O (io), AD9 I/O (io), AD10 I/O (io), AD11 I/O (io), AD12 I/O (io), AD13 I/O (io)
part K pins: AD14 I/O (io), AD15 I/O (io), AD16 I/O (io), AD17 I/O (io), AD18 I/O (io), AD19 I/O (io), AD20 I/O (io), AD21 I/O (io), AD22 I/O (io), AD25 I/O (io), AD26 I/O (io), AE4 I/O (io), AE5 I/O (io), AE6 I/O (io), AE7 I/O (io), AE8 I/O (io), AE9 I/O (io), AE10 I/O (io), AE11 I/O (io), AE12 I/O (io), AE13 I/O (io), AE14 I/O (io), AE15 I/O (io), AE16 I/O (io), AE17 I/O (io), AE18 I/O (io), AE19 I/O (io), AE20 I/O (io), AE21 I/O (io), AE22 I/O (io), AE23 I/O (io), AE24 I/O (io), AF5 I/O (io), AF6 I/O (io), AF7 I/O (io), AF8 I/O (io), AF9 I/O (io), AF10 I/O (io), AF11 I/O (io), AF12 I/O (io)
part L pins: AF13 I/O (io), AF14 I/O (io), AF15 I/O (io), AF16 I/O (io), AF17 I/O (io), AF18 I/O (io), AF19 I/O (io), AF20 I/O (io), AF21 I/O (io), AF22 I/O (io), AF23 I/O (io), AF24 I/O (io)
part M pins: N5 NPECL1 (in), N24 NPECL2 (in), P5 PPECL1 (I/P) (in), P24 PPECL2 (I/P) (in)
part N pins: AA21 TDO (out), AB21 TCK (in), AB22 ~{TRST} (in), AC22 TMS (in), AC23 RCK (in), AD23 TDI (in)
part O pins: G8 VDD (power), G19 VDDP (power), H7 VDDP (power), H8 VDD (power), H9 VDDP (power), H10 VDDP (power), H11 VDDP (power), H12 VDDP (power), H13 VDDP (power), H14 VDDP (power), H15 VDDP (power), H16 VDDP (power), H17 VDDP (power), H18 VDDP (power), H19 VDD (power), H20 VDD (power), J8 VDDP (power), J9 VDD (power), J10 VDD (power), J11 VDD (power), J12 VDD (power), J13 VDD (power), J14 VDD (power), J15 VDD (power), J16 VDD (power), J17 VDD (power), J18 VDD (power), J19 VDDP (power), K8 VDDP (power), K9 VDD (power), K18 VDD (power), K19 VDDP (power), L8 VDDP (power), L9 VDD (power), L18 VDD (power), L19 VDDP (power), M8 VDDP (power), M9 VDD (power), M18 VDD (power), M19 VDDP (power), N8 VDDP (power), N9 VDD (power), N18 VDD (power), N19 VDDP (power), P8 VDDP (power), P9 VDD (power), P18 VDD (power), P19 VDDP (power), R8 VDDP (power), R9 VDD (power), R18 VDD (power), R19 VDDP (power), T8 VDDP (power), T9 VDD (power), T18 VDD (power), T19 VDDP (power), U8 VDDP (power), U9 VDD (power), U18 VDD (power), U19 VDDP (power), V8 VDDP (power), V9 VDD (power), V10 VDD (power), V11 VDD (power), V12 VDD (power), V13 VDD (power), V14 VDD (power), V15 VDD (power), V16 VDD (power), V17 VDD (power), V18 VDD (power), V19 VDDP (power), W7 VDD (power), W8 VDD (power), W9 VDDP (power), W10 VDDP (power), W11 VDDP (power), W12 VDDP (power), W13 VDDP (power), W14 VDDP (power), W15 VDDP (power), W16 VDDP (power), W17 VDDP (power), W18 VDDP (power), W19 VDD (power), W20 VDDP (power), Y8 VDDP (power), Y19 VDD (power), Y20 VPP (power)
part P pins: A1 GND (power), A2 GND (power), A25 GND (power), A26 GND (power), AA6 GND (power), AA22 GND (power), AA23 GND (power), AB6 GND (power), AB7 GND (power), AC5 GND (power), AC9 GND (power), AD24 VPN (power), AE1 GND (power), AE2 GND (power), AE3 GND (power), AE25 GND (power), AE26 GND (power), AF1 GND (power), AF2 GND (power), AF3 GND (power), AF4 GND (power), AF25 GND (power), AF26 GND (power), B1 GND (power), B2 GND (power), B3 GND (power), B4 GND (power), B25 GND (power), B26 GND (power), C1 GND (power), C2 GND (power), C3 GND (power), C4 GND (power), D3 GND (power), F5 GND (power), K10 GND (power), K11 GND (power), K12 GND (power), K13 GND (power), K14 GND (power), K15 GND (power), K16 GND (power), K17 GND (power), L10 GND (power), L11 GND (power), L12 GND (power), L13 GND (power), L14 GND (power), L15 GND (power), L16 GND (power), L17 GND (power), M10 GND (power), M11 GND (power), M12 GND (power), M13 GND (power), M14 GND (power), M15 GND (power), M16 GND (power), M17 GND (power), N10 GND (power), N11 GND (power), N12 GND (power), N13 GND (power), N14 GND (power), N15 GND (power), N16 GND (power), N17 GND (power), P10 GND (power), P11 GND (power), P12 GND (power), P13 GND (power), P14 GND (power), P15 GND (power), P16 GND (power), P17 GND (power), R10 GND (power), R11 GND (power), R12 GND (power), R13 GND (power), R14 GND (power), R15 GND (power), R16 GND (power), R17 GND (power), T10 GND (power), T11 GND (power), T12 GND (power), T13 GND (power), T14 GND (power), T15 GND (power), T16 GND (power), T17 GND (power), U10 GND (power), U11 GND (power), U12 GND (power), U13 GND (power), U14 GND (power), U15 GND (power), U16 GND (power), U17 GND (power)
part Q pins: N2 AGND (power), P2 AVDD (power), P25 AVDD (power), P26 AGND (power)
part R pins: F7 NC, G9 NC, G11 NC, G13 NC, G15 NC, G17 NC, G20 NC, J7 NC, J20 NC, L7 NC, L20 NC, N7 NC, N20 NC, R7 NC, R20 NC, U7 NC, U20 NC, Y9 NC, Y11 NC, Y13 NC, Y15 NC, Y17 NC

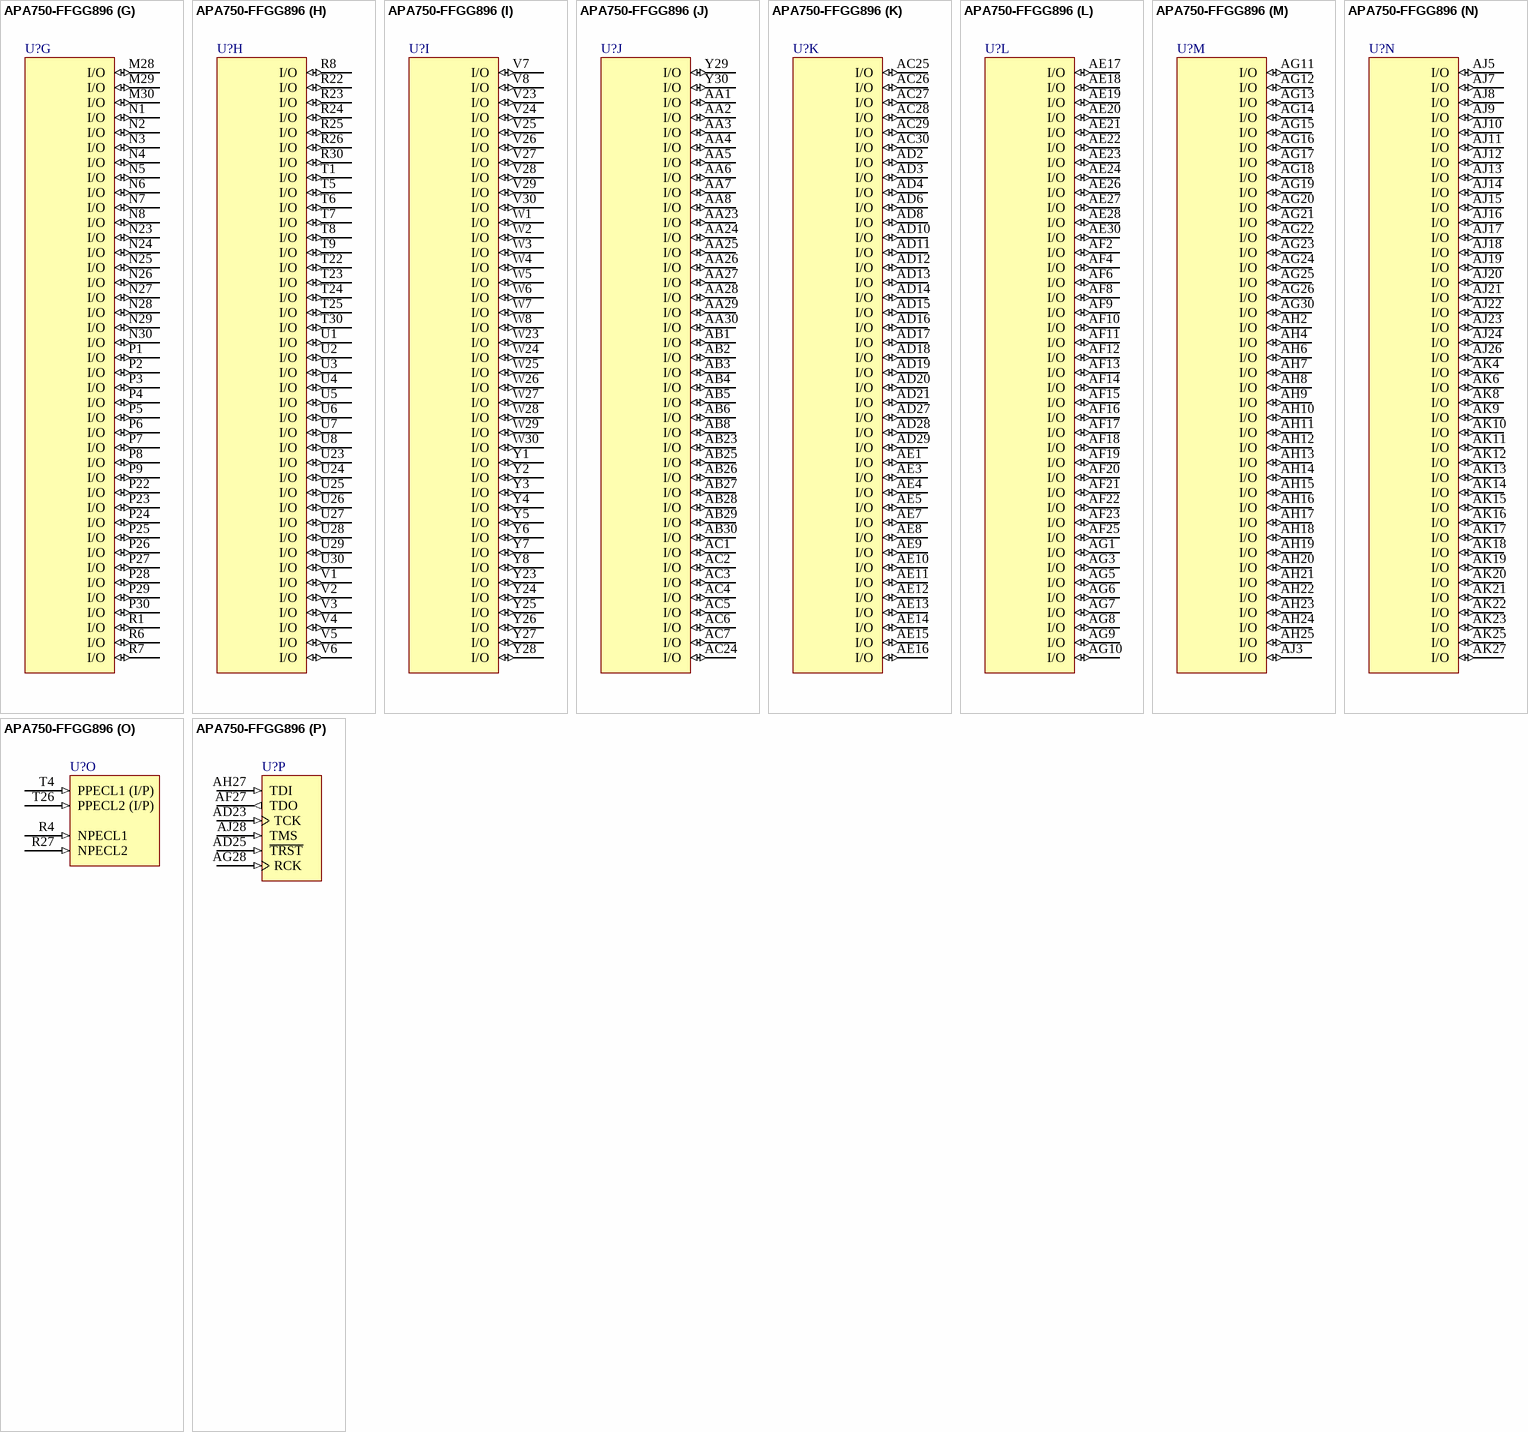
[diagram p132: symbol APA750-FFGG896]

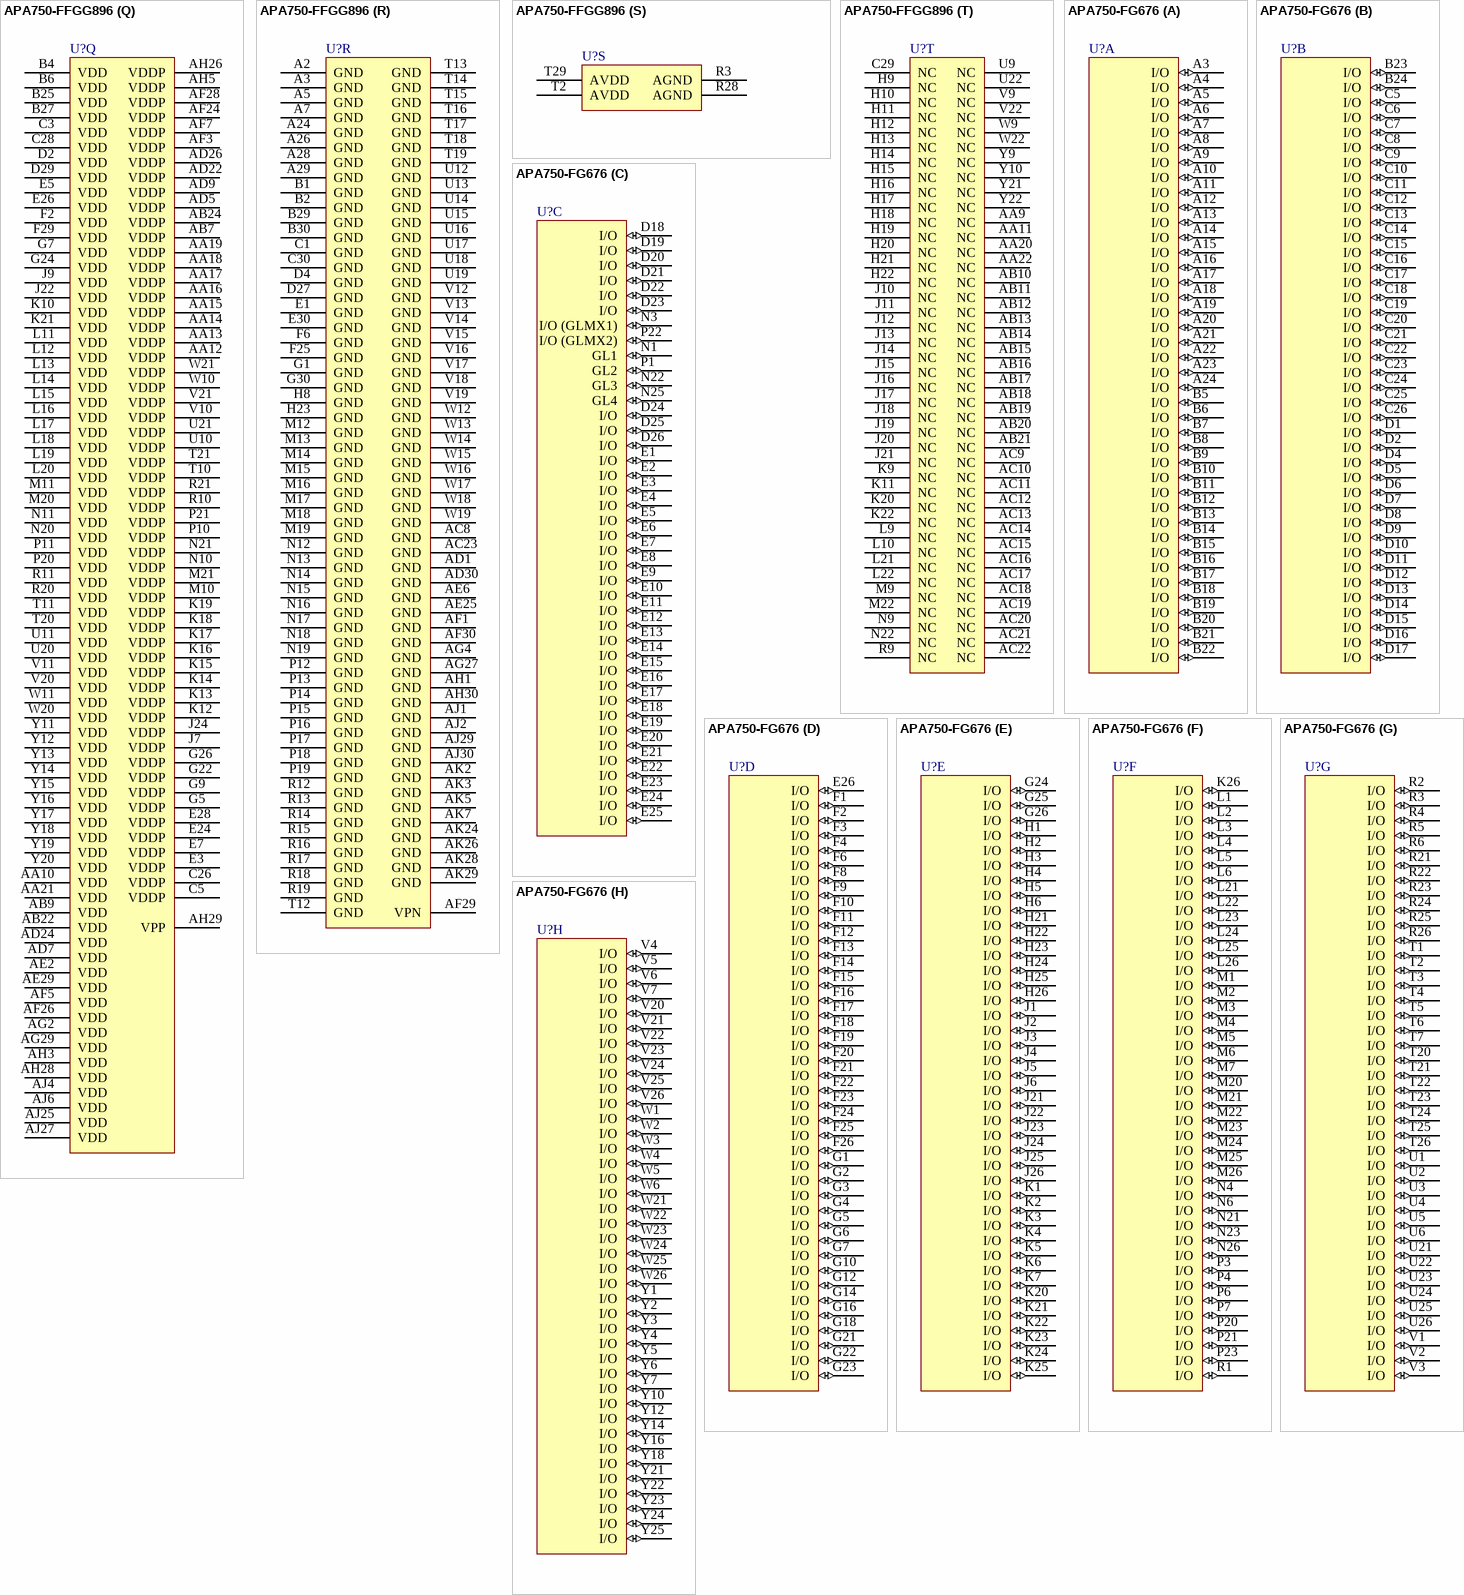
[diagram p133: symbols APA750-FFGG896 to APA750-FG676]

## APA750-FFGG896
designator U?
ProASICPlus APA750 Flash FPGA, 562 User IOs, 896-Pin FBGA, Speed Grade F, Commercial Grade, Pb-Free; ComponentAvailability: Speed Grade F no longer suported, removed from v5.9, Jan-2010 datasheet.; Published: 16-Dec-2005; LatestRevisionDate: 11-Dec-2009; LatestRevisionNote: Updated to datasheet version 5.8 Jun-2009.; DatasheetVersion: v5.8, Jun-2009; PackageVersion: ver11.2, Nov-2009; PackageReference: FG896; Publisher: Altium Limited; PackageDescription: 896-Ball Fine Pitch Plastic Ball Grid Array (FG896); Code_JEDEC: MS-034-AAN-1; ComponentLink1Description: ProASIC PLUS Datasheet; ComponentLink1URL: http://www.actel.com/documents/ProASICPLUS_DS.pdf; ComponentLink2Description: Package Mechanical Drawings; ComponentLink2URL: http://www.actel.com/documents/PckgMechDrwngs.pdf; ComponentLink3Description: ProASIC PLUS Documents; ComponentLink3URL: http://www.actel.com/products/proasicplus/docs.aspx; ComponentLink4Description: Actel.com Home; ComponentLink4URL: http://www.actel.com/
footprint FG896 (BGA, 896-Leads, Body 31x31mm, Pitch 1mm)
part A pins: A4 I/O (io), A6 I/O (io), A8 I/O (io), A9 I/O (io), A10 I/O (io), A11 I/O (io), A12 I/O (io), A13 I/O (io), A14 I/O (io), A15 I/O (io), A16 I/O (io), A17 I/O (io), A18 I/O (io), A19 I/O (io), A20 I/O (io), A21 I/O (io), A22 I/O (io), A23 I/O (io), A25 I/O (io), A27 I/O (io), B3 I/O (io), B5 I/O (io), B7 I/O (io), B8 I/O (io), B9 I/O (io), B10 I/O (io), B11 I/O (io), B12 I/O (io), B13 I/O (io), B14 I/O (io), B15 I/O (io), B16 I/O (io), B17 I/O (io), B18 I/O (io), B19 I/O (io), B20 I/O (io), B21 I/O (io), B22 I/O (io), B23 I/O (io), B24 I/O (io)
part B pins: B26 I/O (io), B28 I/O (io), C2 I/O (io), C4 I/O (io), C6 I/O (io), C7 I/O (io), C8 I/O (io), C9 I/O (io), C10 I/O (io), C11 I/O (io), C12 I/O (io), C13 I/O (io), C14 I/O (io), C15 I/O (io), C16 I/O (io), C17 I/O (io), C18 I/O (io), C19 I/O (io), C20 I/O (io), C21 I/O (io), C22 I/O (io), C23 I/O (io), C24 I/O (io), C25 I/O (io), C27 I/O (io), D1 I/O (io), D3 I/O (io), D5 I/O (io), D6 I/O (io), D7 I/O (io), D8 I/O (io), D9 I/O (io), D10 I/O (io), D11 I/O (io), D12 I/O (io), D13 I/O (io), D14 I/O (io), D15 I/O (io), D16 I/O (io), D17 I/O (io)
part C pins: D18 I/O (io), D19 I/O (io), D20 I/O (io), D21 I/O (io), D22 I/O (io), D23 I/O (io), D24 I/O (io), D25 I/O (io), D26 I/O (io), D28 I/O (io), D30 I/O (io), E2 I/O (io), E4 I/O (io), E6 I/O (io), E8 I/O (io), E9 I/O (io), E10 I/O (io), E11 I/O (io), E12 I/O (io), E13 I/O (io), E14 I/O (io), E15 I/O (io), E16 I/O (io), E17 I/O (io), E18 I/O (io), E19 I/O (io), E20 I/O (io), E21 I/O (io), E22 I/O (io), E23 I/O (io), E25 I/O (io), E27 I/O (io), E29 I/O (io), F1 I/O (io), F3 I/O (io), F4 I/O (io), F5 I/O (io), F7 I/O (io), F8 I/O (io), F9 I/O (io)
part D pins: F10 I/O (io), F11 I/O (io), F12 I/O (io), F13 I/O (io), F14 I/O (io), F15 I/O (io), F16 I/O (io), F17 I/O (io), F18 I/O (io), F19 I/O (io), F20 I/O (io), F21 I/O (io), F22 I/O (io), F23 I/O (io), F24 I/O (io), F26 I/O (io), F27 I/O (io), F28 I/O (io), F30 I/O (io), G2 I/O (io), G3 I/O (io), G4 I/O (io), G6 I/O (io), G8 I/O (io), G10 I/O (io), G11 I/O (io), G12 I/O (io), G13 I/O (io), G14 I/O (io), G15 I/O (io), G16 I/O (io), G17 I/O (io), G18 I/O (io), G19 I/O (io), R2 I/O (GLMX1) (io), R5 GL1 (io), R29 I/O (GLMX2) (io), T3 GL2 (io), T27 GL4 (io), T28 GL3 (io)
part E pins: G20 I/O (io), G21 I/O (io), G23 I/O (io), G25 I/O (io), G27 I/O (io), G28 I/O (io), G29 I/O (io), H1 I/O (io), H2 I/O (io), H3 I/O (io), H4 I/O (io), H5 I/O (io), H6 I/O (io), H7 I/O (io), H24 I/O (io), H25 I/O (io), H26 I/O (io), H27 I/O (io), H28 I/O (io), H29 I/O (io), H30 I/O (io), J1 I/O (io), J2 I/O (io), J3 I/O (io), J4 I/O (io), J5 I/O (io), J6 I/O (io), J8 I/O (io), J23 I/O (io), J25 I/O (io), J26 I/O (io), J27 I/O (io), J28 I/O (io), J29 I/O (io), J30 I/O (io), K1 I/O (io), K2 I/O (io), K3 I/O (io), K4 I/O (io), K5 I/O (io)
part F pins: K6 I/O (io), K7 I/O (io), K8 I/O (io), K23 I/O (io), K24 I/O (io), K25 I/O (io), K26 I/O (io), K27 I/O (io), K28 I/O (io), K29 I/O (io), K30 I/O (io), L1 I/O (io), L2 I/O (io), L3 I/O (io), L4 I/O (io), L5 I/O (io), L6 I/O (io), L7 I/O (io), L8 I/O (io), L23 I/O (io), L24 I/O (io), L25 I/O (io), L26 I/O (io), L27 I/O (io), L28 I/O (io), L29 I/O (io), L30 I/O (io), M1 I/O (io), M2 I/O (io), M3 I/O (io), M4 I/O (io), M5 I/O (io), M6 I/O (io), M7 I/O (io), M8 I/O (io), M23 I/O (io), M24 I/O (io), M25 I/O (io), M26 I/O (io), M27 I/O (io)
part G pins: M28 I/O (io), M29 I/O (io), M30 I/O (io), N1 I/O (io), N2 I/O (io), N3 I/O (io), N4 I/O (io), N5 I/O (io), N6 I/O (io), N7 I/O (io), N8 I/O (io), N23 I/O (io), N24 I/O (io), N25 I/O (io), N26 I/O (io), N27 I/O (io), N28 I/O (io), N29 I/O (io), N30 I/O (io), P1 I/O (io), P2 I/O (io), P3 I/O (io), P4 I/O (io), P5 I/O (io), P6 I/O (io), P7 I/O (io), P8 I/O (io), P9 I/O (io), P22 I/O (io), P23 I/O (io), P24 I/O (io), P25 I/O (io), P26 I/O (io), P27 I/O (io), P28 I/O (io), P29 I/O (io), P30 I/O (io), R1 I/O (io), R6 I/O (io), R7 I/O (io)
part H pins: R8 I/O (io), R22 I/O (io), R23 I/O (io), R24 I/O (io), R25 I/O (io), R26 I/O (io), R30 I/O (io), T1 I/O (io), T5 I/O (io), T6 I/O (io), T7 I/O (io), T8 I/O (io), T9 I/O (io), T22 I/O (io), T23 I/O (io), T24 I/O (io), T25 I/O (io), T30 I/O (io), U1 I/O (io), U2 I/O (io), U3 I/O (io), U4 I/O (io), U5 I/O (io), U6 I/O (io), U7 I/O (io), U8 I/O (io), U23 I/O (io), U24 I/O (io), U25 I/O (io), U26 I/O (io), U27 I/O (io), U28 I/O (io), U29 I/O (io), U30 I/O (io), V1 I/O (io), V2 I/O (io), V3 I/O (io), V4 I/O (io), V5 I/O (io), V6 I/O (io)
part I pins: V7 I/O (io), V8 I/O (io), V23 I/O (io), V24 I/O (io), V25 I/O (io), V26 I/O (io), V27 I/O (io), V28 I/O (io), V29 I/O (io), V30 I/O (io), W1 I/O (io), W2 I/O (io), W3 I/O (io), W4 I/O (io), W5 I/O (io), W6 I/O (io), W7 I/O (io), W8 I/O (io), W23 I/O (io), W24 I/O (io), W25 I/O (io), W26 I/O (io), W27 I/O (io), W28 I/O (io), W29 I/O (io), W30 I/O (io), Y1 I/O (io), Y2 I/O (io), Y3 I/O (io), Y4 I/O (io), Y5 I/O (io), Y6 I/O (io), Y7 I/O (io), Y8 I/O (io), Y23 I/O (io), Y24 I/O (io), Y25 I/O (io), Y26 I/O (io), Y27 I/O (io), Y28 I/O (io)
part J pins: AA1 I/O (io), AA2 I/O (io), AA3 I/O (io), AA4 I/O (io), AA5 I/O (io), AA6 I/O (io), AA7 I/O (io), AA8 I/O (io), AA23 I/O (io), AA24 I/O (io), AA25 I/O (io), AA26 I/O (io), AA27 I/O (io), AA28 I/O (io), AA29 I/O (io), AA30 I/O (io), AB1 I/O (io), AB2 I/O (io), AB3 I/O (io), AB4 I/O (io), AB5 I/O (io), AB6 I/O (io), AB8 I/O (io), AB23 I/O (io), AB25 I/O (io), AB26 I/O (io), AB27 I/O (io), AB28 I/O (io), AB29 I/O (io), AB30 I/O (io), AC1 I/O (io), AC2 I/O (io), AC3 I/O (io), AC4 I/O (io), AC5 I/O (io), AC6 I/O (io), AC7 I/O (io), AC24 I/O (io), Y29 I/O (io), Y30 I/O (io)
part K pins: AC25 I/O (io), AC26 I/O (io), AC27 I/O (io), AC28 I/O (io), AC29 I/O (io), AC30 I/O (io), AD2 I/O (io), AD3 I/O (io), AD4 I/O (io), AD6 I/O (io), AD8 I/O (io), AD10 I/O (io), AD11 I/O (io), AD12 I/O (io), AD13 I/O (io), AD14 I/O (io), AD15 I/O (io), AD16 I/O (io), AD17 I/O (io), AD18 I/O (io), AD19 I/O (io), AD20 I/O (io), AD21 I/O (io), AD27 I/O (io), AD28 I/O (io), AD29 I/O (io), AE1 I/O (io), AE3 I/O (io), AE4 I/O (io), AE5 I/O (io), AE7 I/O (io), AE8 I/O (io), AE9 I/O (io), AE10 I/O (io), AE11 I/O (io), AE12 I/O (io), AE13 I/O (io), AE14 I/O (io), AE15 I/O (io), AE16 I/O (io)
part L pins: AE17 I/O (io), AE18 I/O (io), AE19 I/O (io), AE20 I/O (io), AE21 I/O (io), AE22 I/O (io), AE23 I/O (io), AE24 I/O (io), AE26 I/O (io), AE27 I/O (io), AE28 I/O (io), AE30 I/O (io), AF2 I/O (io), AF4 I/O (io), AF6 I/O (io), AF8 I/O (io), AF9 I/O (io), AF10 I/O (io), AF11 I/O (io), AF12 I/O (io), AF13 I/O (io), AF14 I/O (io), AF15 I/O (io), AF16 I/O (io), AF17 I/O (io), AF18 I/O (io), AF19 I/O (io), AF20 I/O (io), AF21 I/O (io), AF22 I/O (io), AF23 I/O (io), AF25 I/O (io), AG1 I/O (io), AG3 I/O (io), AG5 I/O (io), AG6 I/O (io), AG7 I/O (io), AG8 I/O (io), AG9 I/O (io), AG10 I/O (io)
part M pins: AG11 I/O (io), AG12 I/O (io), AG13 I/O (io), AG14 I/O (io), AG15 I/O (io), AG16 I/O (io), AG17 I/O (io), AG18 I/O (io), AG19 I/O (io), AG20 I/O (io), AG21 I/O (io), AG22 I/O (io), AG23 I/O (io), AG24 I/O (io), AG25 I/O (io), AG26 I/O (io), AG30 I/O (io), AH2 I/O (io), AH4 I/O (io), AH6 I/O (io), AH7 I/O (io), AH8 I/O (io), AH9 I/O (io), AH10 I/O (io), AH11 I/O (io), AH12 I/O (io), AH13 I/O (io), AH14 I/O (io), AH15 I/O (io), AH16 I/O (io), AH17 I/O (io), AH18 I/O (io), AH19 I/O (io), AH20 I/O (io), AH21 I/O (io), AH22 I/O (io), AH23 I/O (io), AH24 I/O (io), AH25 I/O (io), AJ3 I/O (io)
part N pins: AJ5 I/O (io), AJ7 I/O (io), AJ8 I/O (io), AJ9 I/O (io), AJ10 I/O (io), AJ11 I/O (io), AJ12 I/O (io), AJ13 I/O (io), AJ14 I/O (io), AJ15 I/O (io), AJ16 I/O (io), AJ17 I/O (io), AJ18 I/O (io), AJ19 I/O (io), AJ20 I/O (io), AJ21 I/O (io), AJ22 I/O (io), AJ23 I/O (io), AJ24 I/O (io), AJ26 I/O (io), AK4 I/O (io), AK6 I/O (io), AK8 I/O (io), AK9 I/O (io), AK10 I/O (io), AK11 I/O (io), AK12 I/O (io), AK13 I/O (io), AK14 I/O (io), AK15 I/O (io), AK16 I/O (io), AK17 I/O (io), AK18 I/O (io), AK19 I/O (io), AK20 I/O (io), AK21 I/O (io), AK22 I/O (io), AK23 I/O (io), AK25 I/O (io), AK27 I/O (io)
part O pins: R4 NPECL1 (in), R27 NPECL2 (in), T4 PPECL1 (I/P) (in), T26 PPECL2 (I/P) (in)
part P pins: AD23 TCK (in), AD25 ~{TRST} (in), AF27 TDO (out), AG28 RCK (in), AH27 TDI (in), AJ28 TMS (in)
part Q pins: AA10 VDD (power), AA12 VDDP (power), AA13 VDDP (power), AA14 VDDP (power), AA15 VDDP (power), AA16 VDDP (power), AA17 VDDP (power), AA18 VDDP (power), AA19 VDDP (power), AA21 VDD (power), AB7 VDDP (power), AB9 VDD (power), AB22 VDD (power), AB24 VDDP (power), AD5 VDDP (power), AD7 VDD (power), AD9 VDDP (power), AD22 VDDP (power), AD24 VDD (power), AD26 VDDP (power), AE2 VDD (power), AE29 VDD (power), AF3 VDDP (power), AF5 VDD (power), AF7 VDDP (power), AF24 VDDP (power), AF26 VDD (power), AF28 VDDP (power), AG2 VDD (power), AG29 VDD (power), AH3 VDD (power), AH5 VDDP (power), AH26 VDDP (power), AH28 VDD (power), AH29 VPP (power), AJ4 VDD (power), AJ6 VDD (power), AJ25 VDD (power), AJ27 VDD (power), B4 VDD (power), B6 VDD (power), B25 VDD (power), B27 VDD (power), C3 VDD (power), C5 VDDP (power), C26 VDDP (power), C28 VDD (power), D2 VDD (power), D29 VDD (power), E3 VDDP (power), E5 VDD (power), E7 VDDP (power), E24 VDDP (power), E26 VDD (power), E28 VDDP (power), F2 VDD (power), F29 VDD (power), G5 VDDP (power), G7 VDD (power), G9 VDDP (power), G22 VDDP (power), G24 VDD (power), G26 VDDP (power), J7 VDDP (power), J9 VDD (power), J22 VDD (power), J24 VDDP (power), K10 VDD (power), K12 VDDP (power), K13 VDDP (power), K14 VDDP (power), K15 VDDP (power), K16 VDDP (power), K17 VDDP (power), K18 VDDP (power), K19 VDDP (power), K21 VDD (power), L11 VDD (power), L12 VDD (power), L13 VDD (power), L14 VDD (power), L15 VDD (power), L16 VDD (power), L17 VDD (power), L18 VDD (power), L19 VDD (power), L20 VDD (power), M10 VDDP (power), M11 VDD (power), M20 VDD (power), M21 VDDP (power), N10 VDDP (power), N11 VDD (power), N20 VDD (power), N21 VDDP (power), P10 VDDP (power), P11 VDD (power), P20 VDD (power), P21 VDDP (power), R10 VDDP (power), R11 VDD (power), R20 VDD (power), R21 VDDP (power), T10 VDDP (power), T11 VDD (power), T20 VDD (power), T21 VDDP (power), U10 VDDP (power), U11 VDD (power), U20 VDD (power), U21 VDDP (power), V10 VDDP (power), V11 VDD (power), V20 VDD (power), V21 VDDP (power), W10 VDDP (power), W11 VDD (power), W20 VDD (power), W21 VDDP (power), Y11 VDD (power), Y12 VDD (power), Y13 VDD (power), Y14 VDD (power), Y15 VDD (power), Y16 VDD (power), Y17 VDD (power), Y18 VDD (power), Y19 VDD (power), Y20 VDD (power)
part R pins: A2 GND (power), A3 GND (power), A5 GND (power), A7 GND (power), A24 GND (power), A26 GND (power), A28 GND (power), A29 GND (power), AC8 GND (power), AC23 GND (power), AD1 GND (power), AD30 GND (power), AE6 GND (power), AE25 GND (power), AF1 GND (power), AF29 VPN (power), AF30 GND (power), AG4 GND (power), AG27 GND (power), AH1 GND (power), AH30 GND (power), AJ1 GND (power), AJ2 GND (power), AJ29 GND (power), AJ30 GND (power), AK2 GND (power), AK3 GND (power), AK5 GND (power), AK7 GND (power), AK24 GND (power), AK26 GND (power), AK28 GND (power), AK29 GND (power), B1 GND (power), B2 GND (power), B29 GND (power), B30 GND (power), C1 GND (power), C30 GND (power), D4 GND (power), D27 GND (power), E1 GND (power), E30 GND (power), F6 GND (power), F25 GND (power), G1 GND (power), G30 GND (power), H8 GND (power), H23 GND (power), M12 GND (power), M13 GND (power), M14 GND (power), M15 GND (power), M16 GND (power), M17 GND (power), M18 GND (power), M19 GND (power), N12 GND (power), N13 GND (power), N14 GND (power), N15 GND (power), N16 GND (power), N17 GND (power), N18 GND (power), N19 GND (power), P12 GND (power), P13 GND (power), P14 GND (power), P15 GND (power), P16 GND (power), P17 GND (power), P18 GND (power), P19 GND (power), R12 GND (power), R13 GND (power), R14 GND (power), R15 GND (power), R16 GND (power), R17 GND (power), R18 GND (power), R19 GND (power), T12 GND (power), T13 GND (power), T14 GND (power), T15 GND (power), T16 GND (power), T17 GND (power), T18 GND (power), T19 GND (power), U12 GND (power), U13 GND (power), U14 GND (power), U15 GND (power), U16 GND (power), U17 GND (power), U18 GND (power), U19 GND (power), V12 GND (power), V13 GND (power), V14 GND (power), V15 GND (power), V16 GND (power), V17 GND (power), V18 GND (power), V19 GND (power), W12 GND (power), W13 GND (power), W14 GND (power), W15 GND (power), W16 GND (power), W17 GND (power), W18 GND (power), W19 GND (power)
part S pins: R3 AGND (power), R28 AGND (power), T2 AVDD (power), T29 AVDD (power)
part T pins: AA9 NC, AA11 NC, AA20 NC, AA22 NC, AB10 NC, AB11 NC, AB12 NC, AB13 NC, AB14 NC, AB15 NC, AB16 NC, AB17 NC, AB18 NC, AB19 NC, AB20 NC, AB21 NC, AC9 NC, AC10 NC, AC11 NC, AC12 NC, AC13 NC, AC14 NC, AC15 NC, AC16 NC, AC17 NC, AC18 NC, AC19 NC, AC20 NC, AC21 NC, AC22 NC, C29 NC, H9 NC, H10 NC, H11 NC, H12 NC, H13 NC, H14 NC, H15 NC, H16 NC, H17 NC, H18 NC, H19 NC, H20 NC, H21 NC, H22 NC, J10 NC, J11 NC, J12 NC, J13 NC, J14 NC, J15 NC, J16 NC, J17 NC, J18 NC, J19 NC, J20 NC, J21 NC, K9 NC, K11 NC, K20 NC, K22 NC, L9 NC, L10 NC, L21 NC, L22 NC, M9 NC, M22 NC, N9 NC, N22 NC, R9 NC, U9 NC, U22 NC, V9 NC, V22 NC, W9 NC, W22 NC, Y9 NC, Y10 NC, Y21 NC, Y22 NC

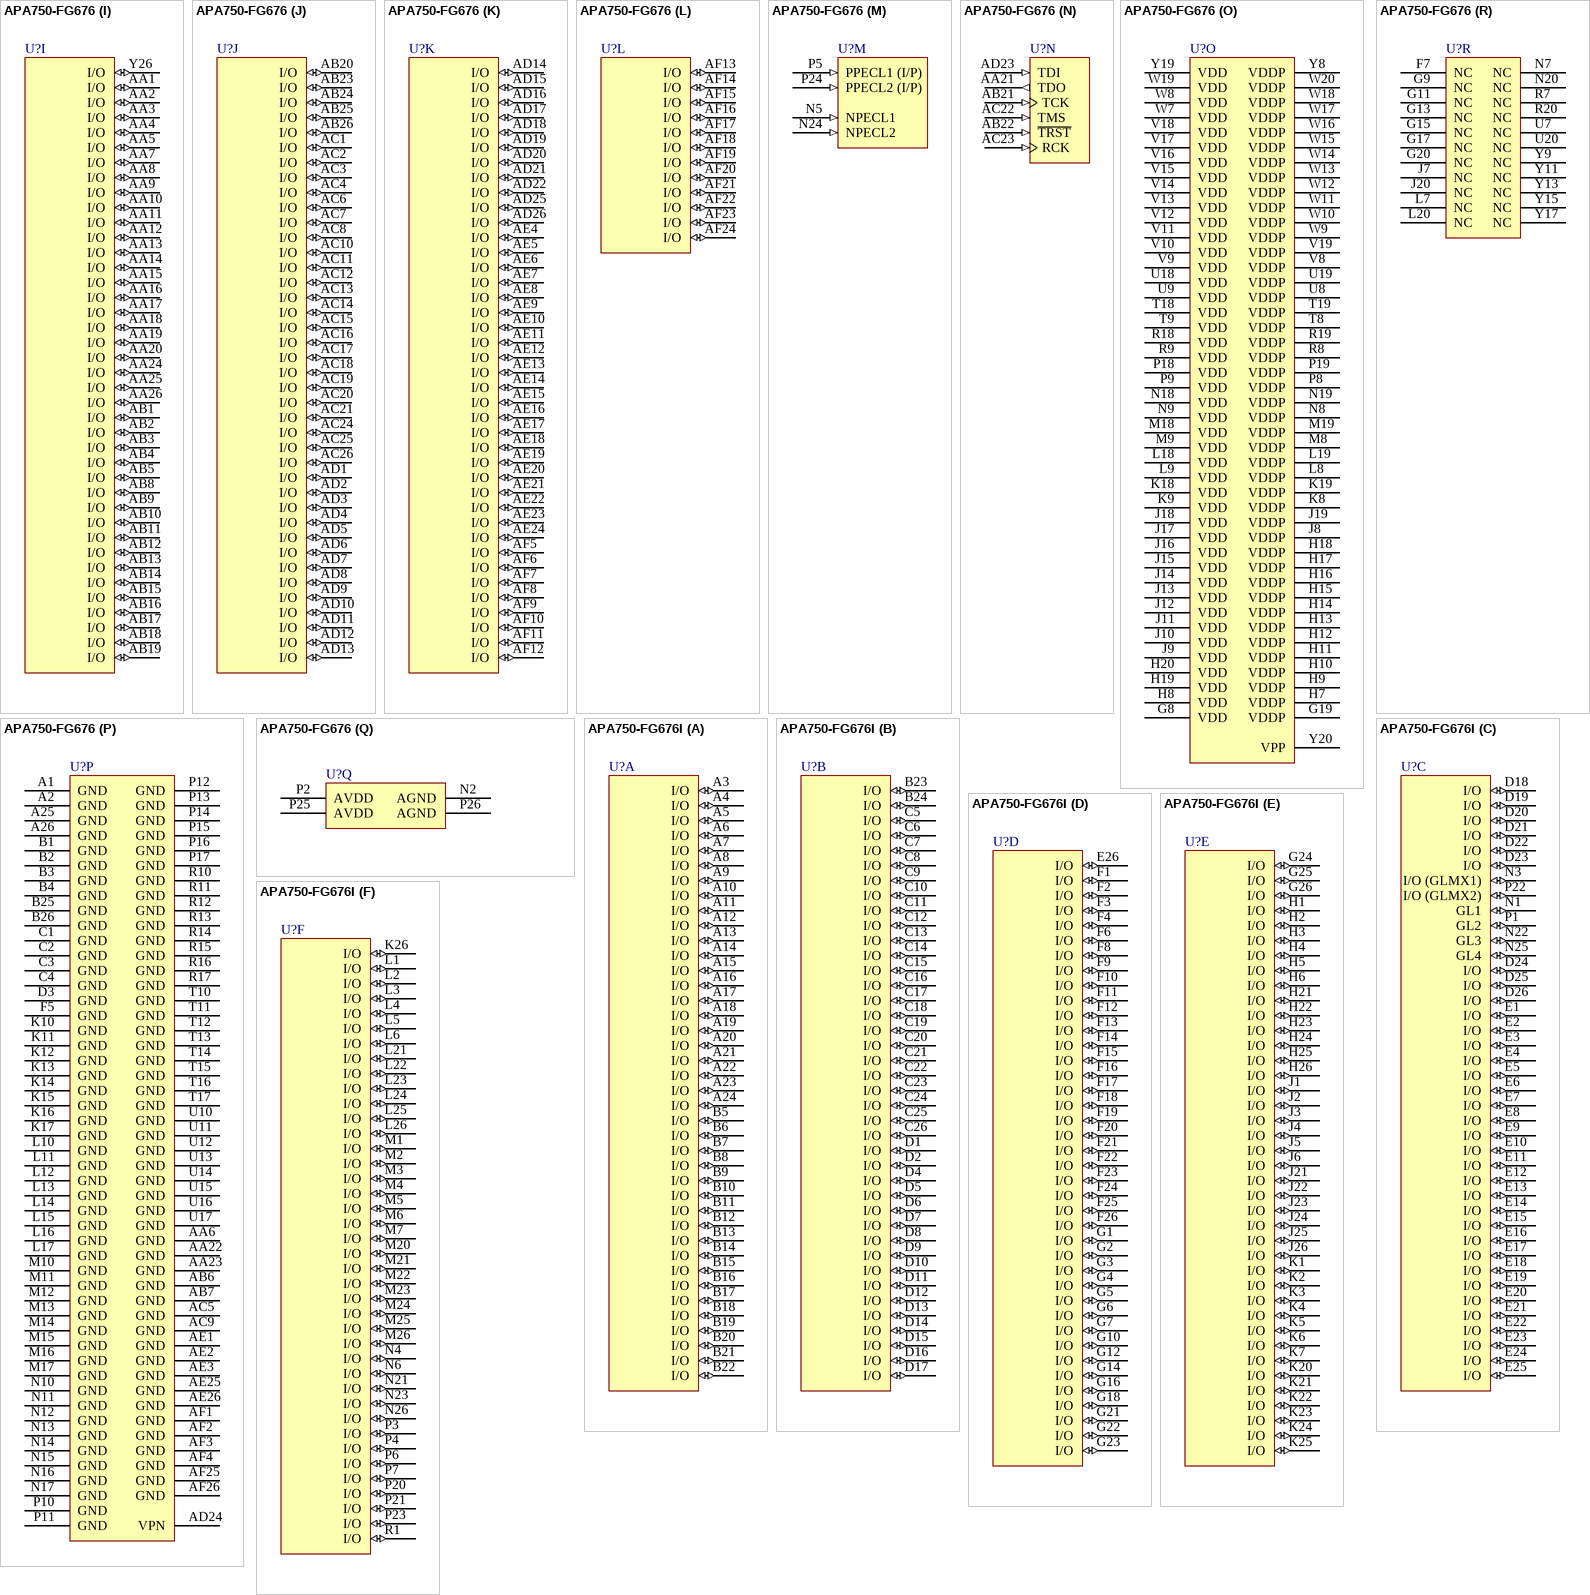
[diagram p134: symbols APA750-FG676 to APA750-FG676I]